# Altium footprint library 2917.PcbLib: 3 footprints
Each footprint in its own frame and in the unit in brackets; x right, y up, seen from the top. Pads: shape width x height; smd on the part's side, far side on the other; paste and mask are expansions set on the pad; w line width, h text height; cw(c..) or ccw(c..) is an arc to the next point about the centre after c.
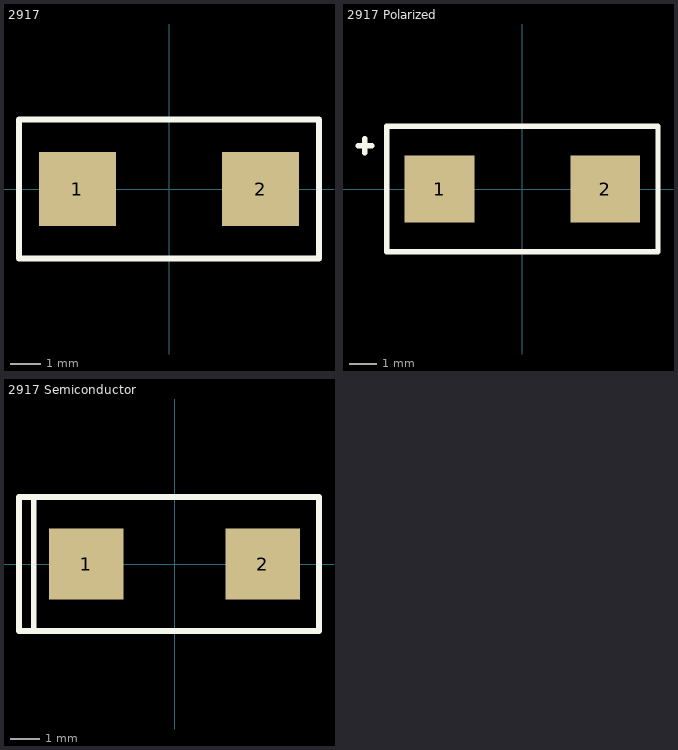
[diagram p0: the footprints below, top view; thin cyan lines are the x and y axes]

## 2917 [mm]
pads (2):
  rect 2.55x2.45 smd: 1(-3.025,0) 2(3.025,0)
Top Overlay:
  lines w0.2: -4.953,-2.3 4.953,-2.3 4.953,2.3 -4.953,2.3 -4.953,-2.3

## 2917 Polarized [mm]
pads (2):
  rect 2.55x2.45 smd: 1(-3.025,0) 2(3.025,0)
Top Overlay:
  lines w0.2: -6.007,1.575 -5.499,1.575 ; -5.753,1.321 -5.753,1.829 ; -4.953,-2.3 -4.953,2.3 4.953,2.3 4.953,-2.3 -4.953,-2.3

## 2917 Semiconductor [mm]
pads (2):
  rect 2.55x2.45 smd: 1(-3.025,0) 2(3.025,0)
Top Overlay:
  lines w0.2: -4.826,-2.3 -4.826,2.3 ; -5.334,-2.3 -5.334,2.3 4.953,2.3 4.953,-2.3 -5.334,-2.3